# EAGLE library part 615008138321 (library 615008185221_Eagle_WR-MJ_rev20b)
WR-MJ Modular Jack Vertical Shielded 8P8C w. LED KIND PROPERTIES Quality Class:500 Mating cycles LED:yellow-green General Information Operating Temperature:-40 up to +85 °C Compliance:RoHS Electrical Properties IR 1:1.5 A Working Voltage: 120 V (AC) Withstanding Voltage:1000V (AC) Contact Resistance:20mΩ RISO:500 MΩ Material Properties Insulator MateriaL:PBT Insulator Flammability Rating:UL94 V-0 Color:Black Contact Material:Copper Alloy Contact Plating: Selective Gold Contact Type:Stamped Shielding Material Bronze Shielding Plating:Nickel Packaging Properties Packaging:Tray <https://www.we-online.com/catalog/media/o33126v209%20Family_WR-MJ_615008138321.jpg> Details see: https://www.we-online.com/catalog/en/MJ_VERTICAL_SHIELDED_8P8C_W_LED/ Updated by Yingchun,Shan 2020-01-07 2020 (C) Würth Elektronik
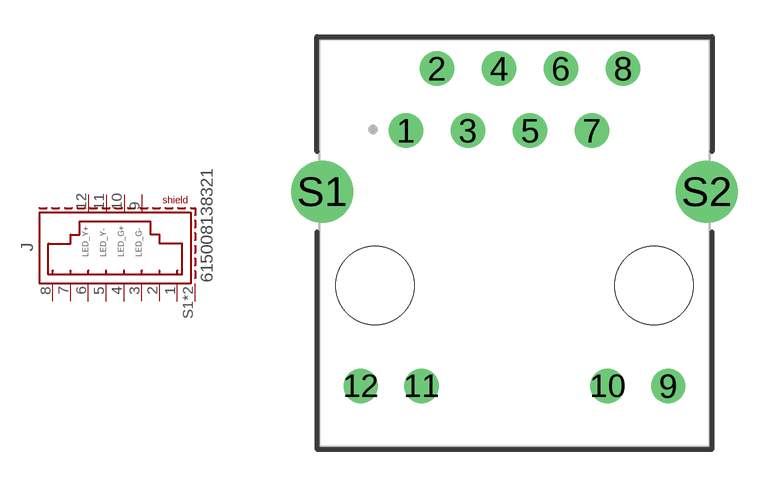
[diagram p63: symbol with the pads of 615008138321; footprint 615008138321]

Designator prefix J

## 615008138321 (DATASHEET-URL: https://www.we-online.com/catalog/datasheet/615008138321.pdf; LED: yellow-green; MOUNT: THT; PART-NUMBER: 615008138321; TYPE: Vertical; VALUE: 615008138321; XPXC: 8P8C)  [615008138321]
1  1  pas
2  2  pas
3  3  pas
4  4  pas
5  5  pas
6  6  pas
7  7  pas
8  8  pas
9  G-  pas
10  G+  pas
11  Y-  pas
12  Y+  pas
S1  SHIELD  pas
S2  SHIELD  pas

## Footprint 615008138321 (pad centres in mm)
WR-MJ Modular Jack Vertical Shielded 8P8C w. LED, 8 pins
drill 0.9: 1 -4.445,4.6; 2 -3.175,7.14; 3 -1.905,4.6; 4 -0.635,7.14; 5 0.635,4.6; 6 1.905,7.14; 7 3.175,4.6; 8 4.445,7.14; 9 6.3,-5.86; 10 3.81,-5.86; 11 -3.81,-5.86; 12 -6.3,-5.86
drill 1.7: S1 -7.875,2.1; S2 7.875,2.1
hole 3.2 at 5.715,-1.75
hole 3.2 at -5.715,-1.75